# EAGLE library part RCLAMP0544M (library bb_tvs)
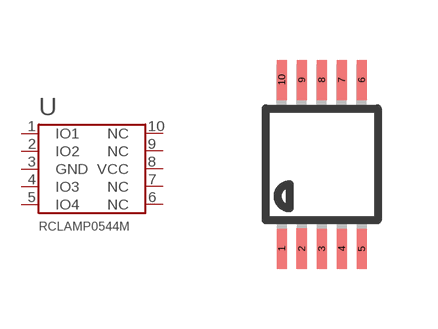
[diagram p1: symbol with the pads of MSOP10; footprint MSOP10]

Designator prefix U

## RCLAMP0544M  [MSOP10]
1  IO1
2  IO2
3  GND  sup
4  IO3
5  IO4
6  NC  nc
7  NC  nc
8  VCC  pwr
9  NC  nc
10  NC  nc

## Footprint MSOP10 (pad centres in mm)
10-Lead Mini Small Outline Package [MSOP] (RM-10) Source: http://www.analog.com/UploadedFiles/Data_Sheets/35641221898805SSM2167_b.pdf COMPLIANT TO JEDEC STANDARDS MO-187BA
smd 0.25 x 1: 1 -1,-2.113; 3 0,-2.113; 4 0.5,-2.113; 5 1,-2.113; 6 1,2.113; 7 0.5,2.113; 8 0,2.113; 9 -0.5,2.113; 10 -1,2.113
smd 0.254 x 1.016: 2 -0.5,-2.113